# Altium schematic symbol library RoBeast_Schematic_Library.SchLib: 131 symbols (part 3 of 5)
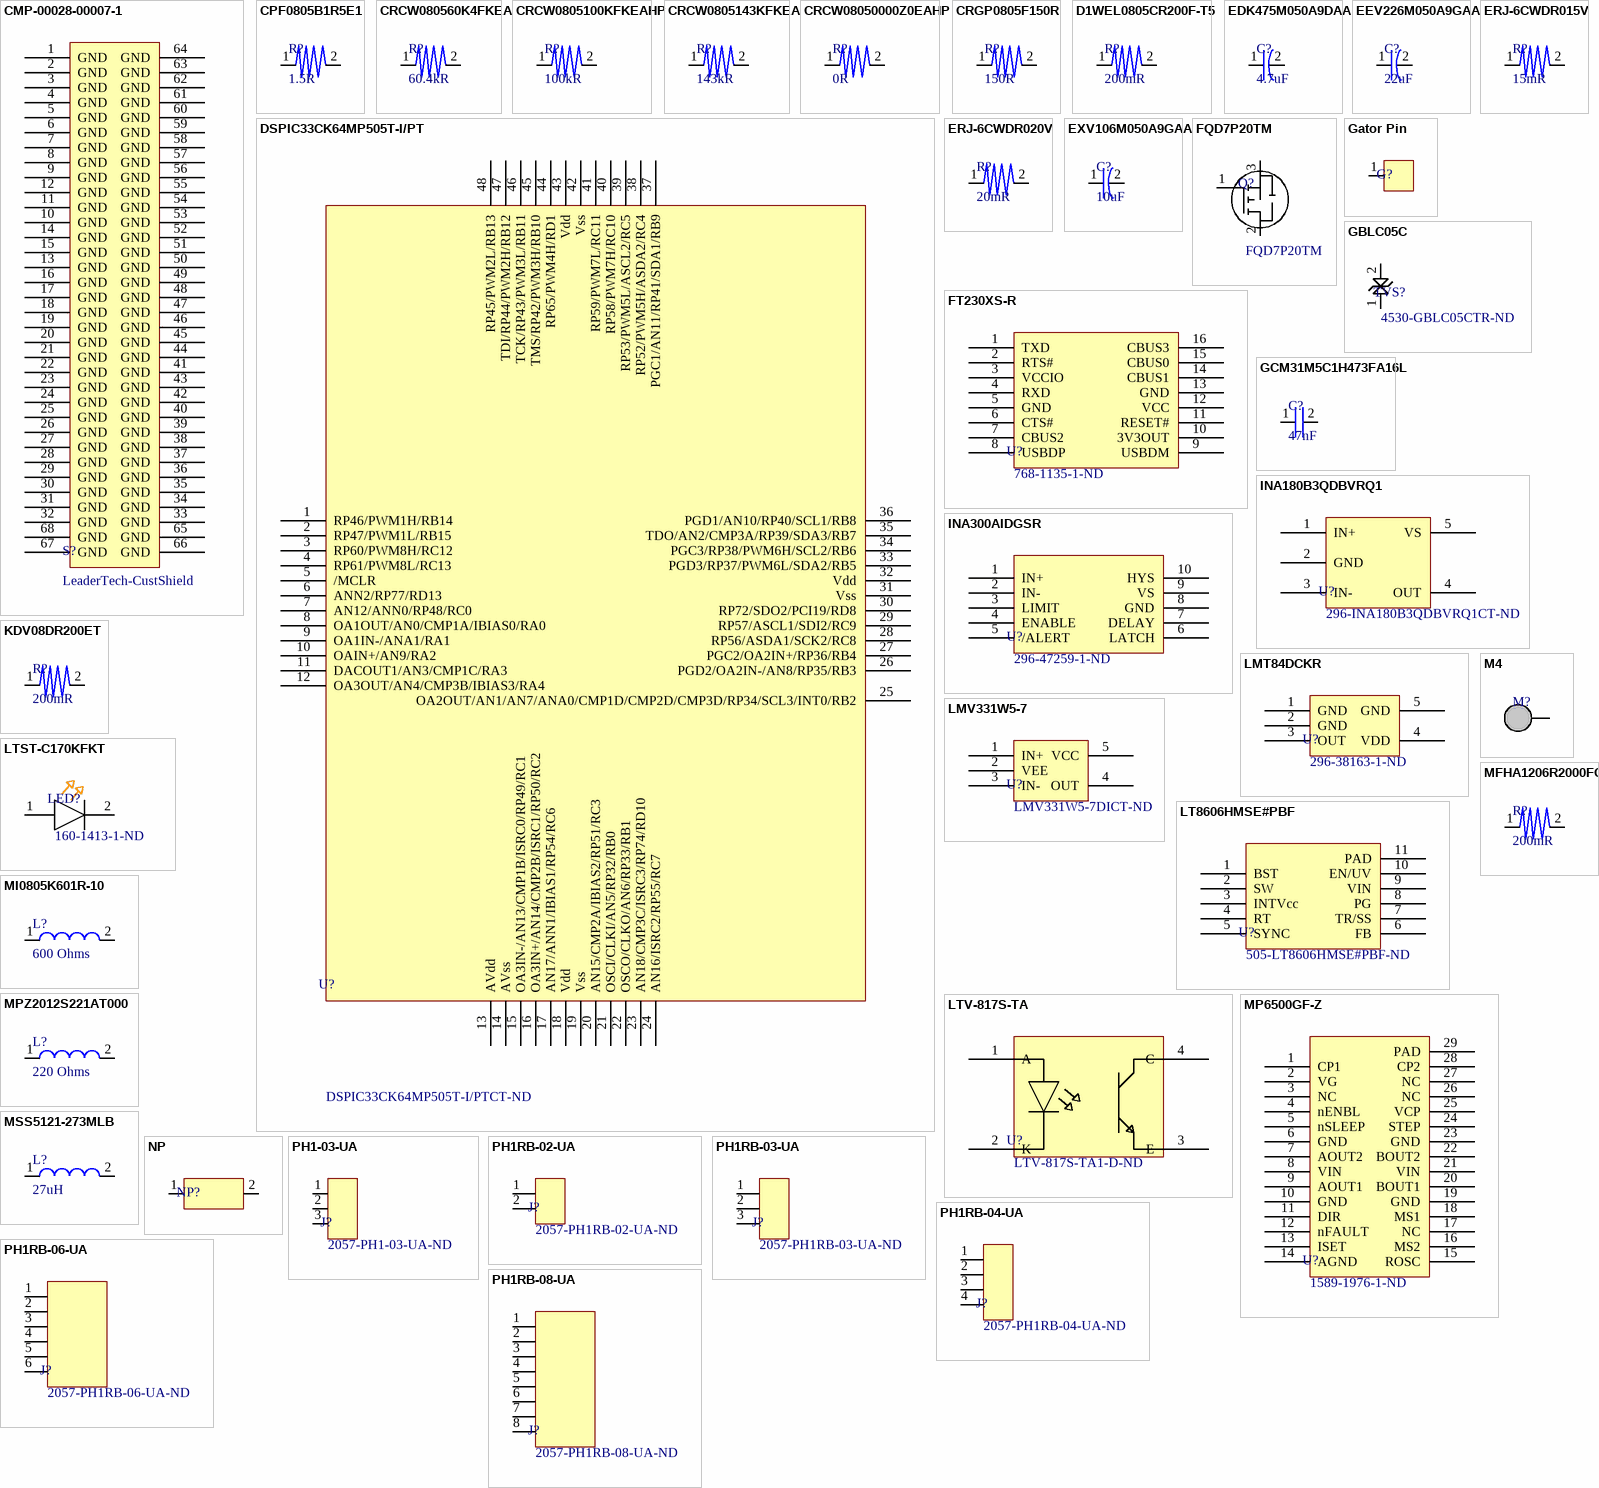
[diagram p5: symbols CMP-00028-00007-1 to PH1RB-08-UA]

## GBLC05C
designator TVS?, comment Supplier Part Number 1: 4530-GBLC05CTR-ND  (hidden comment: TVS ESD Protection Diode)
Trans Voltage Suppressor Diode, 350W, 5V V(RWM), Bidirectional, 2 Element, Silicon; Manufacturer: Protek Devices; Manufacturer Part Number: GBLC05C-LF-T7; Package Body Material: Plastic; Clamping Voltage-Max: 18.3V; Min Breakdown Voltage: 6V; Number of Elements: 2; Qualification Status: Not Qualified; Supplier 1: DigiKey; RoHS: Yes; Stock 1: 1235; Pricing 1: 1=0.4355, 10=0.3594, 25=0.3424, 100=0.2932, 250=0.2652, 500=0.2413, 1000=0.2388 (USD); Number of Pins: 2; Diode Element Material: SILICON; Package Shape: Rectangular; Terminal Finish: Tin; Polarity: Bidirectional; Diode Type: TRANS VOLTAGE SUPPRESSOR; Rep Pk Reverse Voltage-Max: 5V; Surface Mount: Yes; JESD-609 Code: e3; JESD-30 Code: R-PDSO-G2; Non-rep Peak Rev Power Dis-Max: 350W; Package Style: SMALL OUTLINEMeter; Technology: AVALANCHE; Terminal Form: Gull Wing; Terminal Position: DUAL; Reach SVHC Compliant: Yes; RoHS Compliant: Yes; ComponentLink1URL: https://datasheet.ciiva.com:443/pdfs/VipMasterIC/IC/PROT/PROT-S-A0008396247/PROT-S-A0008396247-1.pdf?src-supplier=IHS+Markit; ComponentLink1Description: https://datasheet.ciiva.com:443/pdfs/VipMasterIC/IC/PROT/PROT-S-A0008396247/PROT-S-A0008396247-1.pdf?src-supplier=IHS+Markit; ComponentLink2URL: https://datasheet.ciiva.com/34302/1855588-34302845.pdf?src-supplier=Jameco; ComponentLink2Description: https://datasheet.ciiva.com/34302/1855588-34302845.pdf?src-supplier=Jameco; ComponentLink3URL: https://datasheet.ciiva.com/26839/getdatasheetpartid-214022-26839935.pdf?src-supplier=Verical; ComponentLink3Description: https://datasheet.ciiva.com/26839/getdatasheetpartid-214022-26839935.pdf?src-supplier=Verical; ComponentLink4URL: https://datasheet.ciiva.com/16397/gblc-16397798.pdf?src-supplier=Future+Electronics; ComponentLink4Description: https://datasheet.ciiva.com/16397/gblc-16397798.pdf?src-supplier=Future+Electronics
footprint GBLC05C
pins: 1 A, 2 A

## GCM31M5C1H473FA16L
designator C?, comment 47nF
Ceramic Capacitor, Multilayer, Ceramic, 50V, 1% +Tol, 1% -Tol, C0G, 30ppm/Cel TC, 0.047uF, Surface Mount, 1206; Manufacturer: Murata; Manufacturer Part Number: GCM31M5C1H473FA16L; Multilayer: Yes; Reference Standard: AEC-Q200; Supplier 1: Digikey; RoHS: Yes; Category: Ceramic Capacitors; Stock 1: 62477; Pricing 1: 1=0.87, 10=0.611, 50=0.5148, 100=0.4192, 500=0.34932, 1000=0.29417 (USD); Mount: Surface Mount; Number of Pins: 2; Dielectric Material: Ceramic; Package Shape: Rectangular; Size Code: 1206; Min Operating Temperature: -55°C; Max Operating Temperature: 125°C; Capacitance: 47nF; Capacitor Type: Ceramic; Negative Tolerance: 1%; Packaging: Tape and Reel; Positive Tolerance: 1%; Rated DC Voltage (URdc): 50V; Temperature Characteristics Code: C0G; Termination: Wraparound; Reach SVHC Compliant: Yes; RoHS Compliant: Yes; ComponentLink1URL: https://datasheet.ciiva.com:443/pdfs/VipMasterIC/IC/MURE/MURE-S-A0004442191/MURE-S-A0004444721-1.pdf?src-supplier=IHS+Markit; ComponentLink1Description: https://datasheet.ciiva.com:443/pdfs/VipMasterIC/IC/MURE/MURE-S-A0004442191/MURE-S-A0004444721-1.pdf?src-supplier=IHS+Markit; Supplier Part Number 1: 490-GCM31M5C1H473FA16LCT-ND
footprint 1206
pins: 1, 2

## INA180B3QDBVRQ1
designator U?, comment Supplier Part Number 1: 296-INA180B3QDBVRQ1CT-ND  (hidden comment: Current Sensor, Gain 100V/V)
Operational Amplifier, 1 Func, 500uV Offset-Max, PDSO5; Manufacturer: Texas Instruments; Manufacturer Part Number: INA180B3QDBVRQ1; Supplier 1: Digikey; RoHS: Yes; Category: Amplifiers - Op Amps, Buffer, Instrumentation; Stock 1: 5909; Pricing 1: 1=0.58, 10=0.492, 25=0.4596, 100=0.3676, 250=0.34136, 500=0.28886, 1000=0.22321 (USD)
footprint INA180B3QDBVRQ1
pins: 1 IN+, 2 GND, 3 IN-, 4 OUT, 5 VS

## INA300AIDGSR
designator U?, comment Supplier Part Number 1: 296-47259-1-ND  (hidden comment: Current Sense)
Comparator, 1 Func, 500uV Offset-Max, 100000ns Response Time, PDSO10; Manufacturer: Texas Instruments; Manufacturer Part Number: INA300AIDGSR; Package Body Material: Plastic; Output Type: OPEN-DRAIN; Average Bias Current-Max (IIB): 10uA; Number of Functions: 1; Supply Voltage Limit-Max: 6V; Supply Voltage-Nom (Vsup): 3.3V; RoHS: Yes; Category: Amplifiers - Op Amps, Buffer, Instrumentation; Stock 1: 6017; Pricing 1: 1=1.52, 10=1.32, 50=1.32, 100=1.02, 1000=0.693, 10000=0.59 (USD); Package Code: TSSOP; Number of Pins: 10; Package Shape: Square; Min Operating Temperature: -40°C; Max Operating Temperature: 125°C; Amplifier Type: COMPARATOR; Input Offset Voltage-Max: 500uV; JESD-30 Code: S-PDSO-G10; Moisture Sensitivity Level: 1; Package Style: SMALL OUTLINE, THIN PROFILE, SHRINK PITCHMeter; Response Time-Nom: 100000ns; Surface Mount: Yes; Terminal Form: Gull Wing; Terminal Position: DUAL; Length: 3mm; Width: 3mm; Height - Seated (Max): 1.1mm; Terminal Pitch: 0.5mm; Reach SVHC Compliant: Yes; RoHS Compliant: Yes; Temperature Grade: AUTOMOTIVE; ComponentLink1URL: https://www.ti.com:443/lit/ds/symlink/ina300.pdf?src-supplier=IHS+Markit; ComponentLink1Description: https://www.ti.com:443/lit/ds/symlink/ina300.pdf?src-supplier=IHS+Markit; ComponentLink2URL: http://www.ti.com/general/docs/suppproductinfo.tsp?distId=10&amp;gotoUrl=http%3A%2F%2Fwww.ti.com%2Flit%2Fgpn%2Fina300&src-supplier=Digikey; ComponentLink2Description: http://www.ti.com/general/docs/suppproductinfo.tsp?distId=10&amp;gotoUrl=http%3A%2F%2Fwww.ti.com%2Flit%2Fgpn%2Fina300&src-supplier=Digikey; ComponentLink3URL: http://www.ti.com/lit/ds/symlink/ina300.pdf?src-supplier=Digikey; ComponentLink3Description: http://www.ti.com/lit/ds/symlink/ina300.pdf?src-supplier=Digikey; Supplier 1: Digikey
footprint INA300AIDGSR
pins: 1 IN+, 2 IN-, 3 LIMIT, 4 ENABLE, 5 /ALERT, 6 LATCH, 7 DELAY, 8 GND, 9 VS, 10 HYS

## KDV08DR200ET
designator R?, comment 200mR
Fixed Resistor, Metal Film, 0.25W, 0.2ohm, 0.5% +/-Tol, 50ppm/Cel, Surface Mount, 0805; Manufacturer: Ohmite; Manufacturer Part Number: KDV08DR200ET; Supplier: Digikey; Supplier Part Number: 273-KDV08DR200ETCT-ND; RoHS: No; Category: Chip SMD Resistors; Stock: 16361; Pricing: 1=0.35, 10=0.285, 25=0.218, 50=0.1582, 100=0.1113, 250=0.09, 500=0.0709, 1000=0.04909 (USD); RoHS Compliant: Yes
footprint 0805
pins: 1, 2

## LMT84DCKR
designator U?, comment Supplier Part Number 1: 296-38163-1-ND  (hidden comment: Temperature Sense)
Analog Voltage Output Sensor, 2.70Cel, CMOS, Rectangular, 5 Pin, Surface Mount; Manufacturer: Texas Instruments; Manufacturer Part Number: LMT84DCKR; Package Body Material: Plastic; Accuracy-Max (Cel): 2.7°C; Operating Current-Max: 9uA; Package Equivalence Code: TSSOP5/6,.08; Power Supplies: 1.5/5.5V; Sensors/Transducers Type: TEMPERATURE SENSOR,ANALOG,VOLTAGE OUTPUT; Max Supply Voltage: 5.5V; Min Supply Voltage: 1.5V; Body Breadth: 1.25inch; Body Height: 0.95mm; Body Length or Diameter: 2mm; Supplier 1: Digikey; RoHS: Yes; Category: Integrated Circuits (ICs); Stock 1: 15785; Pricing 1: 1=0.8, 10=0.611, 25=0.526, 50=0.5072, 100=0.4321, 500=0.37572, 1000=0.32876 (USD); Mount: Surface Mount; Number of Pins: 5; Housing Material: Plastic; Package Shape/Style: Rectangular; Terminal Finish: Tin; Min Operating Temperature: -50°C; Max Operating Temperature: 150°C; JESD-609 Code: e3; Technology: CMOS; Termination: Solder; Reach SVHC Compliant: Yes; RoHS Compliant: Yes; ComponentLink1URL: https://www.ti.com:443/lit/ds/symlink/lmt84.pdf?src-supplier=IHS+Markit; ComponentLink1Description: https://www.ti.com:443/lit/ds/symlink/lmt84.pdf?src-supplier=IHS+Markit; ComponentLink2URL: https://datasheet.ciiva.com/15098/getdatasheetpartid-716717-15098827.pdf?src-supplier=Verical; ComponentLink2Description: https://datasheet.ciiva.com/15098/getdatasheetpartid-716717-15098827.pdf?src-supplier=Verical; ComponentLink3URL: https://datasheet.ciiva.com/29895/lmt84-29895383.pdf?src-supplier=Avnet; ComponentLink3Description: https://datasheet.ciiva.com/29895/lmt84-29895383.pdf?src-supplier=Avnet
footprint LMT84DCKR
pins: 1 GND, 2 GND, 3 OUT, 4 VDD, 5 GND

## LMV331W5-7
designator U?, comment Supplier Part Number 1: LMV331W5-7DICT-ND  (hidden comment: Comparator)
Comparator, 1 Func, 9000uV Offset-Max, 300ns Response Time, BICMOS, PDSO5; Manufacturer: Diodes; Manufacturer Part Number: LMV331W5-7; Package Body Material: Plastic; Output Type: OPEN-COLLECTOR; Average Bias Current-Max (IIB): 400nA; Input Offset Voltage-Max: 9mV; Number of Functions: 1; Supply Voltage Limit-Max: 5.5V; Supply Voltage-Nom (Vsup): 5V; Time @ Peak Reflow Temperature-Max (s): 30s; Supplier 1: Digikey; RoHS: Yes; Category: Comparators; Stock 1: 100535; Pricing 1: 1=0.36, 10=0.294, 25=0.2688, 100=0.2001, 250=0.18132, 500=0.15004, 1000=0.11253 (USD); Package Code: LSSOP; Number of Pins: 5; Package Shape: Rectangular; Terminal Finish: Tin; Min Operating Temperature: -40°C; Max Operating Temperature: 125°C; JESD-609 Code: e3; Amplifier Type: COMPARATOR; JESD-30 Code: R-PDSO-G5; Moisture Sensitivity Level: 1; Package Style: SMALL OUTLINE, LOW PROFILE, SHRINK PITCHMeter; Peak Reflow Temperature (Cel): 260°C; Response Time-Nom: 300ns; Surface Mount: Yes; Technology: BICMOS; Terminal Form: Gull Wing; Terminal Position: DUAL; Length: 3mm; Width: 1.6mm; Height - Seated (Max): 1.4mm; Terminal Pitch: 0.95mm; Reach SVHC Compliant: Yes; RoHS Compliant: Yes; Temperature Grade: AUTOMOTIVE; ComponentLink1URL: https://datasheet.ciiva.com:443/pdfs/VipMasterIC/IC/DIOD/DIOD-S-A0001067967/DIOD-S-A0001067967-1.pdf?src-supplier=IHS+Markit; ComponentLink1Description: https://datasheet.ciiva.com:443/pdfs/VipMasterIC/IC/DIOD/DIOD-S-A0001067967/DIOD-S-A0001067967-1.pdf?src-supplier=IHS+Markit; ComponentLink2URL: https://datasheet.ciiva.com/48501/lmv331-393-48501269.pdf?src-supplier=Avnet; ComponentLink2Description: https://datasheet.ciiva.com/48501/lmv331-393-48501269.pdf?src-supplier=Avnet
footprint LMV331W5-7
pins: 1 IN+, 2 VEE, 3 IN-, 4 OUT, 5 VCC

## LT8606HMSE#PBF
designator U?, comment Supplier Part Number 1: 505-LT8606HMSE#PBF-ND  (hidden comment: Switching Regulator)
Manufacturer: Analog Devices; Manufacturer Part Number: LT8606HMSE#PBF; Time @ Peak Reflow Temperature-Max (s): 30s; Supplier 1: Digikey; RoHS: Yes; Category: Voltage Regulators - Switching; Stock 1: 1797; Pricing 1: 1=5.03, 10=4.519, 50=4.2724, 100=3.7027, 250=3.5128, 500=3.152, 1000=2.65832, 2500=2.5254 (USD); Terminal Finish: Tin; JESD-609 Code: e3; Analog IC - Other Type: SWITCHING REGULATOR; Moisture Sensitivity Level: 1; Peak Reflow Temperature (Cel): 260°C; Reach SVHC Compliant: Yes; RoHS Compliant: Yes; ComponentLink1URL: https://datasheet.ciiva.com:443/pdfs/VipMasterIC/IC/LITC/LITC-S-A0003568646/LITC-S-A0003568646-1.pdf?src-supplier=IHS+Markit; ComponentLink1Description: https://datasheet.ciiva.com:443/pdfs/VipMasterIC/IC/LITC/LITC-S-A0003568646/LITC-S-A0003568646-1.pdf?src-supplier=IHS+Markit
footprint LT8606HMSE#PBF
pins: 1 BST, 2 SW, 3 INTVcc, 4 RT, 5 SYNC, 6 FB, 7 TR/SS, 8 PG, 9 VIN, 10 EN/UV, 11 PAD

## LTST-C170KFKT
designator LED?, comment Supplier Part Number 1: 160-1413-1-ND  (hidden comment: Orange LED)
Single Color LED, Orange, Water Clear, 1.4mm; Manufacturer: Vishay Lite-On; Manufacturer Part Number: LTST-C170KFKT; Shape: Rectangular; Forward Current-Max: 30mA; Luminous Intensity-Nom: 60mcd; Number of Functions: 1; Viewing Angle: 130°; Forward Voltage-Max: 2.4V; Reverse Voltage-Max: 5V; Overall Height: 1.1mm; Supplier 1: Digikey; RoHS: Yes; Category: LEDs; Stock 1: 182565; Pricing 1: 1=0.28, 10=0.152, 100=0.0706, 500=0.06514, 1000=0.05103 (USD); Mount: Surface Mount; Number of Pins: 2; Color: Orange; Terminal Finish: Tin; Color@wavelength: Orange; Min Operating Temperature: -55°C; Max Operating Temperature: 85°C; Lens Style: WATER CLEAR; Optoelectronic Device Type: SINGLE COLOR LED; Packaging: Tape and Reel; JESD-609 Code: e3; Size: 1.4mm; Terminal Pitch: 2.1mm; Reach SVHC Compliant: Yes; RoHS Compliant: Yes; ComponentLink1URL: https://datasheet.ciiva.com:443/pdfs/VipMasterIC/IC/LITE/LITE-S-A0009745864/LITE-S-A0009746003-1.pdf?src-supplier=IHS+Markit; ComponentLink1Description: https://datasheet.ciiva.com:443/pdfs/VipMasterIC/IC/LITE/LITE-S-A0009745864/LITE-S-A0009746003-1.pdf?src-supplier=IHS+Markit; ComponentLink2URL: https://datasheet.ciiva.com/11773/0900766b80dc0279-11773662.pdf?src-supplier=Rs; ComponentLink2Description: https://datasheet.ciiva.com/11773/0900766b80dc0279-11773662.pdf?src-supplier=Rs; ComponentLink3URL: https://datasheet.ciiva.com/12403/lite-on-ltst-c170kfkt-187690-12403821.pdf?src-supplier=Mouser; ComponentLink3Description: https://datasheet.ciiva.com/12403/lite-on-ltst-c170kfkt-187690-12403821.pdf?src-supplier=Mouser; ComponentLink4URL: https://datasheet.ciiva.com/15117/getdatasheetpartid-158266-15117926.pdf?src-supplier=Verical; ComponentLink4Description: https://datasheet.ciiva.com/15117/getdatasheetpartid-158266-15117926.pdf?src-supplier=Verical; ComponentLink5URL: https://datasheet.ciiva.com/2110/s-110-ltst-c170kfkt-2110076.pdf?src-supplier=Digikey; ComponentLink5Description: https://datasheet.ciiva.com/2110/s-110-ltst-c170kfkt-2110076.pdf?src-supplier=Digikey; ComponentLink6URL: https://datasheet.ciiva.com/2110/s-110-ltst-c170kfkt-2110075.pdf?src-supplier=Digikey; ComponentLink6Description: https://datasheet.ciiva.com/2110/s-110-ltst-c170kfkt-2110075.pdf?src-supplier=Digikey; ComponentLink7URL: https://datasheet.ciiva.com/2110/s-110-ltst-c170kfkt-2110077.pdf?src-supplier=Digikey; ComponentLink7Description: https://datasheet.ciiva.com/2110/s-110-ltst-c170kfkt-2110077.pdf?src-supplier=Digikey; ComponentLink8URL: https://datasheet.ciiva.com/16427/ltst-c170kfkt-16427484.pdf?src-supplier=Future+Electronics; ComponentLink8Description: https://datasheet.ciiva.com/16427/ltst-c170kfkt-16427484.pdf?src-supplier=Future+Electronics
footprint 0805_LED
pins: 1 A, 2 K

## LTV-817S-TA
designator U?, comment Supplier Part Number 1: LTV-817S-TA1-D-ND  (hidden comment: Optoisolator)
Transistor Output Optocoupler, 1-Element, 5000V Isolation; Manufacturer: Vishay Lite-On; Manufacturer Part Number: LTV-817S-TA1-D; Supplier 1: Digikey; RoHS: Yes; Category: Optocouplers; Stock 1: 11000; Pricing 1: 1000=0.1201, 2000=0.11009, 5000=0.10008, 10000=0.09341, 25000=0.09007, 50000=0.08688 (USD); ComponentLink1URL: https://datasheet.ciiva.com/12240/ltv-817-827-847-12240455.pdf?src-supplier=Mouser; ComponentLink1Description: https://datasheet.ciiva.com/12240/ltv-817-827-847-12240455.pdf?src-supplier=Mouser; ComponentLink2URL: https://datasheet.ciiva.com/2958/s-110-ltv-817m-s-s-ta-s-ta1-s-tpseries20130925-2958798.pdf?src-supplier=Digikey; ComponentLink2Description: https://datasheet.ciiva.com/2958/s-110-ltv-817m-s-s-ta-s-ta1-s-tpseries20130925-2958798.pdf?src-supplier=Digikey
footprint LTV-817S-TA
pins: 1 A, 2 K, 3 E, 4 C

## M4
designator M?, comment M4 Mounting Screw Hole  (value not drawn)
footprint M4
pins: 1 M4

## MFHA1206R2000FC
designator R?, comment 200mR
Res, R2, 1%, 1W, Metal Film, 1206 Rohs Compliant: Yes; Manufacturer: Eaton; Manufacturer Part Number: MFHA1206R2000FC; Supplier 1: Digikey; RoHS: No; Stock 1: 10043; Pricing 1: 1=0.41, 10=0.278, 25=0.2164, 50=0.1594, 100=0.1109, 250=0.09668, 500=0.07972, 1000=0.05766 (USD); Supplier Part Number 1: 283-MFHA1206R2000FCCT-ND
footprint 1206
pins: 1, 2

## MI0805K601R-10
designator L?, comment 600 Ohms
Ferrite Chip, 1 Function(s), 1.5A, 2 Pin(s); Manufacturer Part Number: MI0805K601R-10; Manufacturer Series: MI0805K601R; Manufacturer: Laird; DC Resistance-Max: 100mR; Number of Functions: 1; Output Impedance: 600R; Max Frequency: 100MHz; Supplier 1: Digikey; RoHS: Yes; Category: Ferrite Beads and Chips; Stock 1: 475960; Pricing 1: 1=0.19, 10=0.147, 25=0.122, 50=0.1052, 100=0.0948, 250=0.08004, 500=0.0716, 1000=0.06107 (USD); Mount: Surface Mount; Terminal Finish: Nickel; Material: Ferrite; Case Code: 0805; Min Operating Temperature: -55°C; Max Operating Temperature: 125°C; JESD-609 Code: e3; Filter Type: FERRITE CHIP; Current Rating: 1.5A; Packaging: Tape and Reel; Construction: Chip Bead; Min Frequency: 100MHz; Series: MI0805K601R-10; Length: 2mm; Width: 1.25mm; Height: 0.9mm; RoHS Compliant: Yes; Reach SVHC Compliant: Yes; ComponentLink1URL: https://datasheet.ciiva.com:443/pdfs/VipMasterIC/IC/STWD/STWDS00462/STWDS00462-1.pdf?src-supplier=IHS+Markit; ComponentLink1Description: https://datasheet.ciiva.com:443/pdfs/VipMasterIC/IC/STWD/STWDS00462/STWDS00462-1.pdf?src-supplier=IHS+Markit; ComponentLink2URL: https://datasheet.ciiva.com/22650/1685918-22650417.pdf?src-supplier=Element14; ComponentLink2Description: https://datasheet.ciiva.com/22650/1685918-22650417.pdf?src-supplier=Element14; ComponentLink3URL: https://datasheet.ciiva.com/1013/mi0805k601r-10-b-1013299.pdf?src-supplier=Digikey; ComponentLink3Description: https://datasheet.ciiva.com/1013/mi0805k601r-10-b-1013299.pdf?src-supplier=Digikey; ComponentLink4URL: https://datasheet.ciiva.com/3082/mi0805k601r-10-a-vp-3082219.pdf?src-supplier=Avnet; ComponentLink4Description: https://datasheet.ciiva.com/3082/mi0805k601r-10-a-vp-3082219.pdf?src-supplier=Avnet; Supplier Part Number 1: 240-2390-1-ND
footprint 0805
pins: 1, 2

## MP6500GF-Z
designator U?, comment Supplier Part Number 1: 1589-1976-1-ND  (hidden comment: Stepper Motor Driver)
Stepper Motor Controller, PDSO28; Manufacturer: Monolithic Power Systems; Manufacturer Part Number: MP6500GF-Z; Package Body Material: Plastic; Number of Functions: 1; Supply Voltage-Max (Vsup): 35V; Supply Voltage-Min (Vsup): 4.5V; Supply Voltage-Nom (Vsup): 24V; Supplier 1: Digikey; RoHS: Yes; Stock 1: 2900; Pricing 1: 1=2.97, 10=2.668, 25=2.5224, 100=2.1861, 250=2.07404, 500=1.86102, 1000=1.56954 (USD); Package Code: HTSSOP; Number of Pins: 28; Package Shape: Rectangular; Min Operating Temperature: -40°C; Max Operating Temperature: 125°C; Analog IC - Other Type: STEPPER MOTOR CONTROLLER; JESD-30 Code: R-PDSO-G28; Package Style: SMALL OUTLINE, HEAT SINK/SLUG, THIN PROFILE, SHRINK PITCHMeter; Surface Mount: Yes; Terminal Form: Gull Wing; Terminal Position: DUAL; Length: 9.7mm; Width: 4.4mm; Height - Seated (Max): 1.2mm; Terminal Pitch: 0.65mm; Temperature Grade: AUTOMOTIVE; Reach SVHC Compliant: Yes; RoHS Compliant: Yes; ComponentLink1URL: https://datasheet.ciiva.com:443/pdfs/VipMasterIC/IC/MONO/MONO-S-A0009032018/MONO-S-A0009032018-1.pdf?src-supplier=IHS+Markit; ComponentLink1Description: https://datasheet.ciiva.com:443/pdfs/VipMasterIC/IC/MONO/MONO-S-A0009032018/MONO-S-A0009032018-1.pdf?src-supplier=IHS+Markit; ComponentLink2URL: https://www.monolithicpower.com/pub/media/document/m/p/mp6500_r1.01.pdf?src-supplier=Digikey; ComponentLink2Description: https://www.monolithicpower.com/pub/media/document/m/p/mp6500_r1.01.pdf?src-supplier=Digikey
footprint MP6500GF-Z
pins: 1 CP1, 2 VG, 3 NC, 4 nENBL, 5 nSLEEP, 6 GND, 7 AOUT2, 8 VIN, 9 AOUT1, 10 GND, 11 DIR, 12 nFAULT, 13 ISET, 14 AGND, 15 ROSC, 16 MS2, 17 NC, 18 MS1, 19 GND, 20 BOUT1, 21 VIN, 22 BOUT2, 23 GND, 24 STEP, 25 VCP, 26 NC, 27 NC, 28 CP2, 29 PAD

## MPZ2012S221AT000
designator L?, comment 220 Ohms
Ferrite Chip, 1 Function(s), 3A; Manufacturer: TDK; Manufacturer Part Number: MPZ2012S221AT000; DC Resistance-Max: 40mR; Max Frequency: 100MHz; Number of Functions: 1; Output Impedance: 220R; Supplier 1: Digikey; RoHS: Yes; Category: Ferrite Beads and Chips; Stock 1: 260953; Pricing 1: 1=0.12, 10=0.094, 25=0.0848, 50=0.0622, 100=0.0537, 250=0.0424, 500=0.03582, 1000=0.03016 (USD); Mount: Surface Mount; Material: Ferrite; Case Code: 0805; Terminal Finish: Copper; Min Operating Temperature: -55°C; Max Operating Temperature: 125°C; Construction: Chip Bead; Filter Type: FERRITE CHIP; Min Frequency: 100MHz; Packaging: Tape and Reel; Current Rating: 3A; JESD-609 Code: e2; Length: 2mm; Width: 1.25mm; Height: 0.85mm; Reach SVHC Compliant: Yes; RoHS Compliant: Yes; ComponentLink1URL: https://datasheet.ciiva.com:443/pdfs/VipMasterIC/IC/TDKC/TDKC-S-A0008032886/TDKC-S-A0008032886-1.pdf?src-supplier=IHS+Markit; ComponentLink1Description: https://datasheet.ciiva.com:443/pdfs/VipMasterIC/IC/TDKC/TDKC-S-A0008032886/TDKC-S-A0008032886-1.pdf?src-supplier=IHS+Markit; ComponentLink2URL: https://datasheet.ciiva.com/46381/1750041-46381647.pdf?src-supplier=Element14; ComponentLink2Description: https://datasheet.ciiva.com/46381/1750041-46381647.pdf?src-supplier=Element14; ComponentLink3URL: https://datasheet.ciiva.com/46634/beads-commercial-power-mpz-en-46634582.pdf?src-supplier=Digikey; ComponentLink3Description: https://datasheet.ciiva.com/46634/beads-commercial-power-mpz-en-46634582.pdf?src-supplier=Digikey; ComponentLink4URL: https://datasheet.ciiva.com/46634/beads-commercial-power-mpz-en-46634586.pdf?src-supplier=Digikey; ComponentLink4Description: https://datasheet.ciiva.com/46634/beads-commercial-power-mpz-en-46634586.pdf?src-supplier=Digikey; Supplier Part Number 1: 445-MPZ2012S221AT000CT-ND
footprint 0805
pins: 1, 2

## MSS5121-273MLB
designator L?, comment 27uH
General Purpose Inductor, 27uH, 20%, 1 Element, Ferrite-Core, SMD, 2020; Manufacturer: Coilcraft; Manufacturer Part Number: MSS5121-273MLB; Case/Size Code: 2020; DC Resistance (DCR): 420mR; Inductor Application: POWER INDUCTOR; Number of Functions: 1; Rated Current-Max: 850mA; Self Resonant Frequency: 27MHz; Shape/Size Description: RECTANGULAR PACKAGE; Shielding: Shielded; Test Frequency: 100kHz; Package Height: 2.2mm; Package Length: 6mm; Supplier 1: Mouser; RoHS: Yes; Category: Fixed Inductors; Stock 1: 439; Pricing 1: 1=1.8, 10=1.8, 50=1.8, 100=1.8, 1000=0.878, 10000=0.817 (USD); Number of Pins: 2; Core Material: Ferrite; Terminal Finish: Nickel; Min Operating Temperature: -40°C; Max Operating Temperature: 125°C; Tolerance: 20%; JESD-609 Code: e3; Construction: Shielded; Inductance-Nom (L): 27uH; Inductor Type: GENERAL PURPOSE INDUCTOR; Package Style: SMTMeter; Packaging: Tape and Reel; Surface Mount: Yes; Terminal Placement: Dual Ended; Termination: Wraparound; Package Width: 6mm; Reach SVHC Compliant: Yes; RoHS Compliant: Yes; ComponentLink1URL: https://datasheet.ciiva.com:443/pdfs/VipMasterIC/IC/COLC/COLC-S-A0003131943/COLC-S-A0003131943-1.pdf?src-supplier=IHS+Markit; ComponentLink1Description: https://datasheet.ciiva.com:443/pdfs/VipMasterIC/IC/COLC/COLC-S-A0003131943/COLC-S-A0003131943-1.pdf?src-supplier=IHS+Markit; ComponentLink2URL: https://datasheet.ciiva.com/22680/1681961-22680287.pdf?src-supplier=Element14; ComponentLink2Description: https://datasheet.ciiva.com/22680/1681961-22680287.pdf?src-supplier=Element14; Supplier Part Number 1: 994-MSS5121-273MLB
footprint MSS5121-273MLB
pins: 1, 2

## NP
designator NP?, comment Not Populated  (value not drawn)
footprint 0805
pins: 1, 2

## PH1-03-UA
designator J?, comment Supplier Part Number 1: 2057-PH1-03-UA-ND  (hidden comment: 3 Pin Connector)
Conn Unshrouded Header HDR 3 POS 2.54mm Solder ST Thru-Hole Bag; Manufacturer: Adam Equipment; Manufacturer Part Number: PH1-03-UA; Supplier 1: Digikey; RoHS: Yes; Category: Connectors; Stock 1: 50788; Pricing 1: 1=0.1, 10=0.045, 100=0.0285, 500=0.02374, 1000=0.02136, 5000=0.01804, 10000=0.01709 (USD); ComponentLink1URL: https://datasheet.ciiva.com/16396/catpg240-254-16396026.pdf?src-supplier=Future+Electronics; ComponentLink1Description: https://datasheet.ciiva.com/16396/catpg240-254-16396026.pdf?src-supplier=Future+Electronics
footprint PH1-03-UA
pins: 1, 2, 3

## PH1RB-02-UA
designator J?, comment Supplier Part Number: 2057-PH1RB-02-UA-ND  (hidden comment: 2 Pin Connector)
Conn Unshrouded Header HDR 2 POS 2.54mm Solder RA Thru-Hole; Manufacturer: Adam Equipment; Manufacturer Part Number: PH1RB-02-UA; Supplier: Digikey; RoHS: No; Category: Connectors; Stock: 14725; Pricing: 1=0.1, 10=0.049, 100=0.0363, 500=0.03006, 1000=0.0263, 5000=0.02254, 10000=0.02192 (USD)
footprint PH1RB-02-UA
pins: 1, 2

## PH1RB-03-UA
designator J?, comment Supplier Part Number: 2057-PH1RB-03-UA-ND  (hidden comment: 3 Pin Connector)
Conn Unshrouded Header HDR 3 POS 2.54mm Solder RA Side Entry Thru-Hole; Manufacturer: Adam Equipment; Manufacturer Part Number: PH1RB-03-UA; Supplier: Digikey; RoHS: No; Category: Connectors; Stock: 27919; Pricing: 1=0.12, 10=0.097, 100=0.0718, 500=0.05938, 1000=0.05196, 5000=0.04454, 10000=0.0433 (USD); ComponentLink1URL: http://www.adam-tech.com/downloader.php?p=PH1RB-XX-UA.pdf&src-supplier=Digikey; ComponentLink1Description: http://www.adam-tech.com/downloader.php?p=PH1RB-XX-UA.pdf&src-supplier=Digikey
footprint PH1RB-03-UA
pins: 1, 2, 3

## PH1RB-04-UA
designator J?, comment Supplier Part Number: 2057-PH1RB-04-UA-ND  (hidden comment: 4 Pin Connector)
Conn Unshrouded Header HDR 4 POS 2.54mm Solder RA Thru-Hole; Manufacturer: Adam Equipment; Manufacturer Part Number: PH1RB-04-UA; Supplier: Digikey; RoHS: No; Category: Connectors; Stock: 13315; Pricing: 1=0.12, 10=0.094, 100=0.0697, 500=0.0577, 1000=0.05048, 5000=0.04327, 10000=0.04207 (USD); ComponentLink1URL: http://www.adam-tech.com/downloader.php?p=PH1RB-XX-UA.pdf&src-supplier=Digikey; ComponentLink1Description: http://www.adam-tech.com/downloader.php?p=PH1RB-XX-UA.pdf&src-supplier=Digikey
footprint PH1RB-04-UA
pins: 1, 2, 3, 4

## PH1RB-06-UA
designator J?, comment Supplier Part Number 1: 2057-PH1RB-06-UA-ND  (hidden comment: 6 Pin Connector)
Conn Unshrouded Header HDR 6 POS 2.54mm Solder RA Thru-Hole; Manufacturer: Adam Equipment; Manufacturer Part Number: PH1RB-06-UA; Supplier 1: Digikey; RoHS: No; Category: Connectors; Stock 1: 9095; Pricing 1: 1=0.18, 10=0.141, 100=0.104, 500=0.08606, 1000=0.0753, 5000=0.06454, 10000=0.06275 (USD)
footprint PH1RB-06-UA
pins: 1, 2, 3, 4, 5, 6

## PH1RB-08-UA
designator J?, comment Supplier Part Number 1: 2057-PH1RB-08-UA-ND  (hidden comment: 8 Pin Connector)
Conn Unshrouded Header HDR 8 POS 2.54mm Solder RA Thru-Hole; Manufacturer: Adam Equipment; Manufacturer Part Number: PH1RB-08-UA; Supplier 1: Digikey; RoHS: No; Category: Connectors; Stock 1: 10117; Pricing 1: 1=0.23, 10=0.196, 100=0.1505, 500=0.12738, 1000=0.10423, 5000=0.09265, 10000=0.08396 (USD)
footprint PH1RB-08-UA
pins: 1, 2, 3, 4, 5, 6, 7, 8

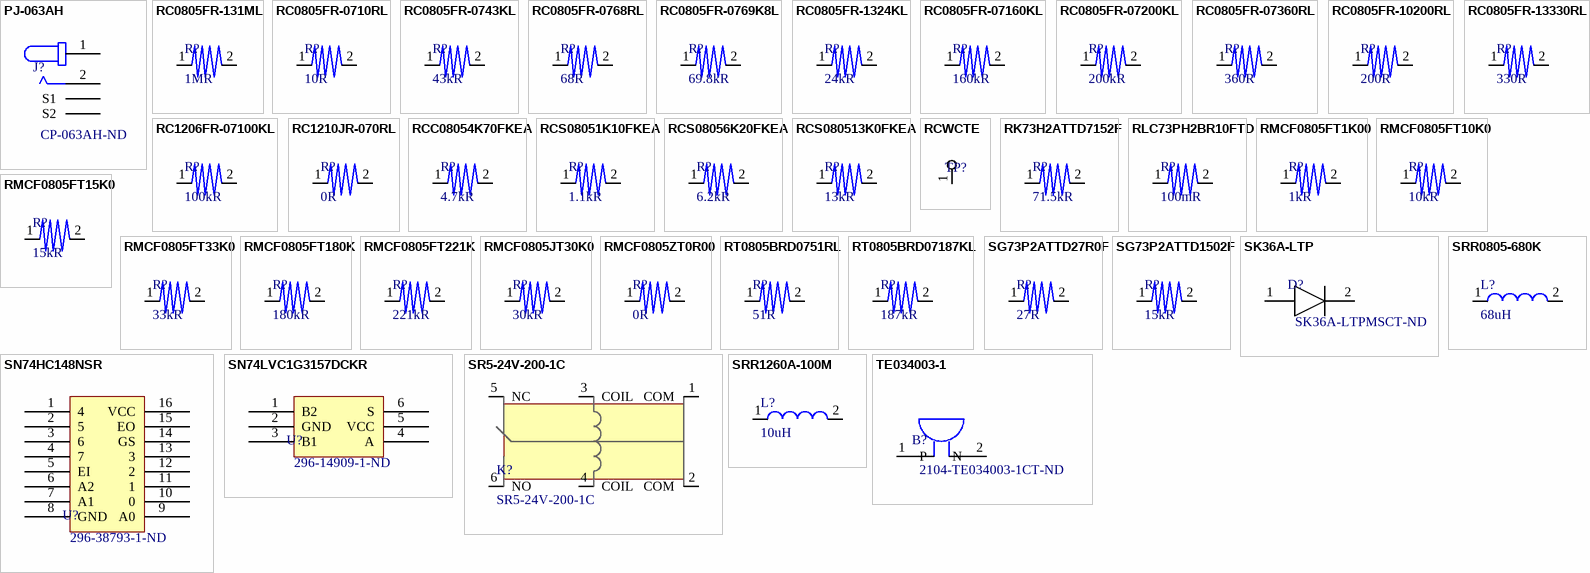
[diagram p2: symbols PJ-063AH to TE034003-1]

## PJ-063AH
designator J?, comment Supplier Part Number 1: CP-063AH-ND  (hidden comment: Power In)
Circular DC Power Connector, 24V, 8A, 2mm Dia; Manufacturer: CUI Devices; Manufacturer Part Number: PJ-063AH; Supplier 1: Digikey; RoHS: Yes; Category: Power Connectors; Stock 1: 8581; Pricing 1: 1=1.37, 10=1.19, 25=1.1396, 50=1.1144, 100=1.0637, 250=0.96244, 500=0.88644, 1000=0.75981, 2500=0.70916 (USD)
footprint PJ-063AH
pins: 1, 2, S1 (power), S2 (power)

## RC0805FR-131ML
designator R?, comment 1MR
Fixed Resistor, Metal Glaze/thick Film, 0.125W, 1000000ohm, 150V, 1% +/-Tol, 100ppm/Cel, Surface Mount, 0805; Manufacturer: Yageo; Manufacturer Part Number: RC0805FR-131ML; Additional Feature: LASER TRIMMABLE; Rated Power Dissipation (P): 125mW; Rated Temperature: 70°C; Temperature Coefficient: 100ppm/°C; Package Height: 0.5mm; Package Length: 2mm; Package Width: 1.25mm; Supplier 1: Digikey; RoHS: Yes; Category: Chip SMD Resistors; Stock 1: 43680; Pricing 1: 1=0.1, 10=0.025, 50=0.016, 100=0.0133, 500=0.00912, 1000=0.00787, 5000=0.00577, 10000=0.00511 (USD); Mount: Surface Mount; Number of Pins: 2; Package Shape: Rectangular; Size Code: 0805; Terminal Finish: Nickel; Min Operating Temperature: -55°C; Max Operating Temperature: 155°C; Tolerance: 1%; JESD-609 Code: e3; Resistor Type: FIXED RESISTOR; Construction: Chip; Package Style: SMTMeter; Packaging: Tape and Reel; Resistance: 1MR; Technology: METAL GLAZE/THICK FILM; Termination: Wraparound; Working Voltage: 150V; Reach SVHC Compliant: Yes; RoHS Compliant: Yes; ComponentLink1URL: https://datasheet.ciiva.com:443/pdfs/VipMasterIC/IC/YAGO/YAGO-S-A0008145938/YAGO-S-A0008145938-1.pdf?src-supplier=IHS+Markit; ComponentLink1Description: https://datasheet.ciiva.com:443/pdfs/VipMasterIC/IC/YAGO/YAGO-S-A0008145938/YAGO-S-A0008145938-1.pdf?src-supplier=IHS+Markit; ComponentLink2URL: https://datasheet.ciiva.com/17332/rc0805-17332618.pdf?src-supplier=Future+Electronics; ComponentLink2Description: https://datasheet.ciiva.com/17332/rc0805-17332618.pdf?src-supplier=Future+Electronics; ComponentLink3URL: https://datasheet.ciiva.com/12560/rc0805-257173-12560472.pdf?src-supplier=Mouser; ComponentLink3Description: https://datasheet.ciiva.com/12560/rc0805-257173-12560472.pdf?src-supplier=Mouser; Supplier Part Number 1: 13-RC0805FR-131MLCT-ND
footprint 0805
pins: 1, 2

## RC0805FR-0710RL
designator R?, comment 10R
Fixed Resistor, Metal Glaze/thick Film, 0.125W, 10ohm, 150V, 1% +/-Tol, 200ppm/Cel, Surface Mount, 0805; Manufacturer: Yageo; Manufacturer Part Number: RC0805FR-0710RL; Additional Feature: LASER TRIMMABLE; Rated Power Dissipation (P): 125mW; Rated Temperature: 70°C; Temperature Coefficient: 200ppm/°C; Package Height: 0.5mm; Package Length: 2mm; Package Width: 1.25mm; Supplier 1: Digikey; RoHS: Yes; Category: Chip SMD Resistors; Stock 1: 1401654; Pricing 1: 1=0.1, 10=0.043, 50=0.0282, 100=0.0238, 500=0.01678, 1000=0.01462 (USD); Mount: Surface Mount; Number of Pins: 2; Package Shape: Rectangular; Size Code: 0805; Terminal Finish: Nickel; Min Operating Temperature: -55°C; Max Operating Temperature: 155°C; Tolerance: 1%; JESD-609 Code: e3; Resistor Type: FIXED RESISTOR; Construction: Chip; Package Style: SMTMeter; Packaging: Tape and Reel; Resistance: 10R; Technology: METAL GLAZE/THICK FILM; Termination: Wraparound; Working Voltage: 150V; Reach SVHC Compliant: Yes; RoHS Compliant: Yes; ComponentLink1URL: https://datasheet.ciiva.com:443/pdfs/VipMasterIC/IC/YAGO/YAGO-S-A0008145938/YAGO-S-A0008145938-1.pdf?src-supplier=IHS+Markit; ComponentLink1Description: https://datasheet.ciiva.com:443/pdfs/VipMasterIC/IC/YAGO/YAGO-S-A0008145938/YAGO-S-A0008145938-1.pdf?src-supplier=IHS+Markit; ComponentLink2URL: https://datasheet.ciiva.com/11809/0900766b8106beab-11809370.pdf?src-supplier=Rs; ComponentLink2Description: https://datasheet.ciiva.com/11809/0900766b8106beab-11809370.pdf?src-supplier=Rs; ComponentLink3URL: https://datasheet.ciiva.com/46412/444164-46412859.pdf?src-supplier=Element14; ComponentLink3Description: https://datasheet.ciiva.com/46412/444164-46412859.pdf?src-supplier=Element14; ComponentLink4URL: https://datasheet.ciiva.com/46447/444164-46447565.pdf?src-supplier=Element14; ComponentLink4Description: https://datasheet.ciiva.com/46447/444164-46447565.pdf?src-supplier=Element14; ComponentLink5URL: https://datasheet.ciiva.com/2457/pyu-r-int-thick-7-2457099.pdf?src-supplier=Digikey; ComponentLink5Description: https://datasheet.ciiva.com/2457/pyu-r-int-thick-7-2457099.pdf?src-supplier=Digikey; ComponentLink6URL: https://datasheet.ciiva.com/2457/pyu-r-int-thick-7-2457100.pdf?src-supplier=Digikey; ComponentLink6Description: https://datasheet.ciiva.com/2457/pyu-r-int-thick-7-2457100.pdf?src-supplier=Digikey; ComponentLink7URL: https://datasheet.ciiva.com/2457/pyu-r-int-thick-7-2457098.pdf?src-supplier=Digikey; ComponentLink7Description: https://datasheet.ciiva.com/2457/pyu-r-int-thick-7-2457098.pdf?src-supplier=Digikey; ComponentLink8URL: https://datasheet.ciiva.com/12555/rc0805-257173-12555112.pdf?src-supplier=Mouser; ComponentLink8Description: https://datasheet.ciiva.com/12555/rc0805-257173-12555112.pdf?src-supplier=Mouser; ComponentLink9URL: https://datasheet.ciiva.com/7941/444164-7941688.pdf?src-supplier=Element14; ComponentLink9Description: https://datasheet.ciiva.com/7941/444164-7941688.pdf?src-supplier=Element14; ComponentLink10URL: https://datasheet.ciiva.com/7941/444164-7941687.pdf?src-supplier=Element14; ComponentLink10Description: https://datasheet.ciiva.com/7941/444164-7941687.pdf?src-supplier=Element14; Supplier Part Number 1: 311-10.0CRCT-ND
footprint 0805
pins: 1, 2

## RC0805FR-0743KL
designator R?, comment 43kR
Fixed Resistor, Metal Glaze/thick Film, 0.125W, 43000ohm, 150V, 1% +/-Tol, 100ppm/Cel, Surface Mount, 0805; Manufacturer: Yageo; Manufacturer Part Number: RC0805FR-0743KL; Additional Feature: LASER TRIMMABLE; Rated Power Dissipation (P): 125mW; Rated Temperature: 70°C; Temperature Coefficient: 100ppm/°C; Package Height: 0.5mm; Package Length: 2mm; Package Width: 1.25mm; Supplier 1: Digikey; RoHS: Yes; Category: Chip SMD Resistors; Stock 1: 499081; Pricing 1: 1=0.1, 10=0.025, 50=0.016, 100=0.0133, 500=0.00912, 1000=0.00787 (USD); Mount: Surface Mount; Number of Pins: 2; Package Shape: Rectangular; Size Code: 0805; Terminal Finish: Nickel; Min Operating Temperature: -55°C; Max Operating Temperature: 155°C; Tolerance: 1%; Package Style: SMTMeter; Technology: METAL GLAZE/THICK FILM; JESD-609 Code: e3; Resistor Type: FIXED RESISTOR; Construction: Chip; Packaging: Tape and Reel; Resistance: 43kR; Termination: Wraparound; Working Voltage: 150V; Reach SVHC Compliant: Yes; RoHS Compliant: Yes; ComponentLink1URL: https://datasheet.ciiva.com:443/pdfs/VipMasterIC/IC/YAGO/YAGO-S-A0008145938/YAGO-S-A0008145938-1.pdf?src-supplier=IHS+Markit; ComponentLink1Description: https://datasheet.ciiva.com:443/pdfs/VipMasterIC/IC/YAGO/YAGO-S-A0008145938/YAGO-S-A0008145938-1.pdf?src-supplier=IHS+Markit; ComponentLink2URL: https://datasheet.ciiva.com/11819/0900766b8106beab-11819846.pdf?src-supplier=Rs; ComponentLink2Description: https://datasheet.ciiva.com/11819/0900766b8106beab-11819846.pdf?src-supplier=Rs; ComponentLink3URL: https://datasheet.ciiva.com/2491/pyu-r-int-thick-7-2491685.pdf?src-supplier=Digikey; ComponentLink3Description: https://datasheet.ciiva.com/2491/pyu-r-int-thick-7-2491685.pdf?src-supplier=Digikey; ComponentLink4URL: https://datasheet.ciiva.com/2491/pyu-r-int-thick-7-2491686.pdf?src-supplier=Digikey; ComponentLink4Description: https://datasheet.ciiva.com/2491/pyu-r-int-thick-7-2491686.pdf?src-supplier=Digikey; ComponentLink5URL: https://datasheet.ciiva.com/2491/pyu-r-int-thick-7-2491684.pdf?src-supplier=Digikey; ComponentLink5Description: https://datasheet.ciiva.com/2491/pyu-r-int-thick-7-2491684.pdf?src-supplier=Digikey; ComponentLink6URL: https://datasheet.ciiva.com/5558/rc0805-5558262.pdf?src-supplier=Mouser; ComponentLink6Description: https://datasheet.ciiva.com/5558/rc0805-5558262.pdf?src-supplier=Mouser; Supplier Part Number 1: 311-43.0KCRCT-ND
footprint 0805
pins: 1, 2

## RC0805FR-0768RL
designator R?, comment 68R
Fixed Resistor, Metal Glaze/thick Film, 0.125W, 68ohm, 150V, 1% +/-Tol, 100ppm/Cel, Surface Mount, 0805; Manufacturer: Yageo; Manufacturer Part Number: RC0805FR-0768RL; Additional Feature: LASER TRIMMABLE; Rated Power Dissipation (P): 125mW; Rated Temperature: 70°C; Temperature Coefficient: 100ppm/°C; Package Height: 0.5mm; Package Length: 2mm; Package Width: 1.25mm; Supplier 1: Digikey; RoHS: Yes; Category: Chip SMD Resistors; Stock 1: 141090; Pricing 1: 1=0.1, 10=0.025, 50=0.016, 100=0.0133, 500=0.00912, 1000=0.00787 (USD); Mount: Surface Mount; Number of Pins: 2; Package Shape: Rectangular; Size Code: 0805; Terminal Finish: Nickel; Min Operating Temperature: -55°C; Max Operating Temperature: 155°C; Tolerance: 1%; JESD-609 Code: e3; Resistor Type: FIXED RESISTOR; Construction: Chip; Package Style: SMTMeter; Packaging: Tape and Reel; Resistance: 68R; Technology: METAL GLAZE/THICK FILM; Termination: Wraparound; Working Voltage: 150V; Reach SVHC Compliant: Yes; RoHS Compliant: Yes; ComponentLink1URL: https://datasheet.ciiva.com:443/pdfs/VipMasterIC/IC/YAGO/YAGO-S-A0008145938/YAGO-S-A0008145938-1.pdf?src-supplier=IHS+Markit; ComponentLink1Description: https://datasheet.ciiva.com:443/pdfs/VipMasterIC/IC/YAGO/YAGO-S-A0008145938/YAGO-S-A0008145938-1.pdf?src-supplier=IHS+Markit; ComponentLink2URL: https://datasheet.ciiva.com/2458/pyu-r-int-thick-7-2458140.pdf?src-supplier=Digikey; ComponentLink2Description: https://datasheet.ciiva.com/2458/pyu-r-int-thick-7-2458140.pdf?src-supplier=Digikey; ComponentLink3URL: https://datasheet.ciiva.com/2458/pyu-r-int-thick-7-2458141.pdf?src-supplier=Digikey; ComponentLink3Description: https://datasheet.ciiva.com/2458/pyu-r-int-thick-7-2458141.pdf?src-supplier=Digikey; ComponentLink4URL: https://datasheet.ciiva.com/2458/pyu-r-int-thick-7-2458139.pdf?src-supplier=Digikey; ComponentLink4Description: https://datasheet.ciiva.com/2458/pyu-r-int-thick-7-2458139.pdf?src-supplier=Digikey; ComponentLink5URL: https://datasheet.ciiva.com/7941/444164-7941831.pdf?src-supplier=Element14; ComponentLink5Description: https://datasheet.ciiva.com/7941/444164-7941831.pdf?src-supplier=Element14; ComponentLink6URL: https://datasheet.ciiva.com/16744/rc0805-16744519.pdf?src-supplier=Future+Electronics; ComponentLink6Description: https://datasheet.ciiva.com/16744/rc0805-16744519.pdf?src-supplier=Future+Electronics; ComponentLink7URL: https://datasheet.ciiva.com/12666/rc0805-12666940.pdf?src-supplier=Mouser; ComponentLink7Description: https://datasheet.ciiva.com/12666/rc0805-12666940.pdf?src-supplier=Mouser; ComponentLink8URL: https://datasheet.ciiva.com/7941/444164-7941832.pdf?src-supplier=Element14; ComponentLink8Description: https://datasheet.ciiva.com/7941/444164-7941832.pdf?src-supplier=Element14; Supplier Part Number 1: 311-68.0CRCT-ND
footprint 0805
pins: 1, 2

## RC0805FR-0769K8L
designator R?, comment 69.8kR
Fixed Resistor, Metal Glaze/thick Film, 0.125W, 69800ohm, 150V, 1% +/-Tol, 100ppm/Cel, Surface Mount, 0805; Manufacturer: Yageo; Manufacturer Part Number: RC0805FR-0769K8L; Additional Feature: LASER TRIMMABLE; Rated Power Dissipation (P): 125mW; Rated Temperature: 70°C; Temperature Coefficient: 100ppm/°C; Package Height: 0.5mm; Package Length: 2mm; Package Width: 1.25mm; Supplier 1: Digikey; RoHS: Yes; Category: Chip SMD Resistors; Stock 1: 113767; Pricing 1: 1=0.1, 10=0.025, 50=0.016, 100=0.0133, 500=0.00912, 1000=0.00787 (USD); Mount: Surface Mount; Number of Pins: 2; Package Shape: Rectangular; Size Code: 0805; Terminal Finish: Nickel; Min Operating Temperature: -55°C; Max Operating Temperature: 155°C; Tolerance: 1%; JESD-609 Code: e3; Resistor Type: FIXED RESISTOR; Construction: Chip; Package Style: SMTMeter; Packaging: Tape and Reel; Resistance: 69.8kR; Technology: METAL GLAZE/THICK FILM; Termination: Wraparound; Working Voltage: 150V; Reach SVHC Compliant: Yes; RoHS Compliant: Yes; ComponentLink1URL: https://datasheet.ciiva.com:443/pdfs/VipMasterIC/IC/YAGO/YAGO-S-A0008145938/YAGO-S-A0008145938-1.pdf?src-supplier=IHS+Markit; ComponentLink1Description: https://datasheet.ciiva.com:443/pdfs/VipMasterIC/IC/YAGO/YAGO-S-A0008145938/YAGO-S-A0008145938-1.pdf?src-supplier=IHS+Markit; ComponentLink2URL: https://datasheet.ciiva.com/2458/pyu-r-int-thick-7-2458027.pdf?src-supplier=Digikey; ComponentLink2Description: https://datasheet.ciiva.com/2458/pyu-r-int-thick-7-2458027.pdf?src-supplier=Digikey; ComponentLink3URL: https://datasheet.ciiva.com/12656/rc0805-12656762.pdf?src-supplier=Mouser; ComponentLink3Description: https://datasheet.ciiva.com/12656/rc0805-12656762.pdf?src-supplier=Mouser; Supplier Part Number 1: 311-69.8KCRCT-ND
footprint 0805
pins: 1, 2

## RC0805FR-1324KL
designator R?, comment 24kR
Fixed Resistor, Metal Glaze/thick Film, 0.125W, 24000ohm, 150V, 1% +/-Tol, 100ppm/Cel, Surface Mount, 0805; Manufacturer: Yageo; Manufacturer Part Number: RC0805FR-1324KL; Additional Feature: LASER TRIMMABLE; Power: 125mW; Rated Temperature: 70°C; Temperature Coefficient: 100ppm/°C; Package Height: 0.5mm; Package Length: 2mm; Package Width: 1.25mm; Supplier: Digikey; Supplier Part Number: 13-RC0805FR-1324KLCT-ND; RoHS: Yes; Category: Chip SMD Resistors; Stock: 39739; Pricing: 1=0.1, 10=0.025, 50=0.016, 100=0.0133, 500=0.00912, 1000=0.00787, 5000=0.00577, 10000=0.00511 (USD); Mounting Technology: Surface Mount; Pins: 2; Package Shape: Rectangular; Case/Package: 0805; Terminal Finish: Nickel; Min Operating Temperature: -55°C; Max Operating Temperature: 155°C; Tolerance: 1%; JESD-609 Code: e3; Resistor Type: FIXED RESISTOR; Construction: Chip; Package Style: SMTMeter; Packaging: Tape and Reel; Value: 24kR; Technology: METAL GLAZE/THICK FILM; Termination: Wraparound; Working Voltage: 150V; Reach SVHC Compliant: Yes; RoHS Compliant: Yes; ComponentLink1URL: https://datasheet.ciiva.com:443/pdfs/VipMasterIC/IC/YAGO/YAGO-S-A0008145938/YAGO-S-A0008145938-1.pdf?src-supplier=IHS+Markit; ComponentLink1Description: https://datasheet.ciiva.com:443/pdfs/VipMasterIC/IC/YAGO/YAGO-S-A0008145938/YAGO-S-A0008145938-1.pdf?src-supplier=IHS+Markit; ComponentLink2URL: https://datasheet.ciiva.com/12575/rc0805-257173-12575893.pdf?src-supplier=Mouser; ComponentLink2Description: https://datasheet.ciiva.com/12575/rc0805-257173-12575893.pdf?src-supplier=Mouser
footprint 0805
pins: 1, 2

## RC0805FR-07160KL
designator R?, comment 160kR
Fixed Resistor, Metal Glaze/thick Film, 0.125W, 160000ohm, 150V, 1% +/-Tol, 100ppm/Cel, Surface Mount, 0805; Manufacturer: Yageo; Manufacturer Part Number: RC0805FR-07160KL; Additional Feature: LASER TRIMMABLE; Power: 125mW; Rated Temperature: 70°C; Temperature Coefficient: 100ppm/°C; Package Height: 0.5mm; Package Length: 2mm; Package Width: 1.25mm; Supplier: Digikey; Supplier Part Number: 311-160KCRCT-ND; RoHS: Yes; Category: Chip SMD Resistors; Stock: 270491; Pricing: 1=0.1, 10=0.025, 50=0.016, 100=0.0133, 500=0.00912, 1000=0.00787 (USD); Mounting Technology: Surface Mount; Pins: 2; Package Shape: Rectangular; Case/Package: 0805; Terminal Finish: Nickel; Min Operating Temperature: -55°C; Max Operating Temperature: 155°C; Tolerance: 1%; JESD-609 Code: e3; Resistor Type: FIXED RESISTOR; Construction: Chip; Package Style: SMTMeter; Packaging: Tape and Reel; Value: 160kR; Technology: METAL GLAZE/THICK FILM; Termination: Wraparound; Working Voltage: 150V; Reach SVHC Compliant: Yes; RoHS Compliant: Yes; ComponentLink1URL: https://datasheet.ciiva.com:443/pdfs/VipMasterIC/IC/YAGO/YAGO-S-A0008145938/YAGO-S-A0008145938-1.pdf?src-supplier=IHS+Markit; ComponentLink1Description: https://datasheet.ciiva.com:443/pdfs/VipMasterIC/IC/YAGO/YAGO-S-A0008145938/YAGO-S-A0008145938-1.pdf?src-supplier=IHS+Markit; ComponentLink2URL: https://datasheet.ciiva.com/11808/0900766b8106beab-11808868.pdf?src-supplier=Rs; ComponentLink2Description: https://datasheet.ciiva.com/11808/0900766b8106beab-11808868.pdf?src-supplier=Rs; ComponentLink3URL: https://datasheet.ciiva.com/2457/pyu-r-int-thick-7-2457007.pdf?src-supplier=Digikey; ComponentLink3Description: https://datasheet.ciiva.com/2457/pyu-r-int-thick-7-2457007.pdf?src-supplier=Digikey; ComponentLink4URL: https://datasheet.ciiva.com/2457/pyu-r-int-thick-7-2457005.pdf?src-supplier=Digikey; ComponentLink4Description: https://datasheet.ciiva.com/2457/pyu-r-int-thick-7-2457005.pdf?src-supplier=Digikey; ComponentLink5URL: https://datasheet.ciiva.com/17061/rc0805-17061772.pdf?src-supplier=Future+Electronics; ComponentLink5Description: https://datasheet.ciiva.com/17061/rc0805-17061772.pdf?src-supplier=Future+Electronics
footprint 0805
pins: 1, 2

## RC0805FR-07200KL
designator R?, comment 200kR
Fixed Resistor, Metal Glaze/thick Film, 0.125W, 200000ohm, 150V, 1% +/-Tol, 100ppm/Cel, Surface Mount, 0805; Manufacturer: Yageo; Manufacturer Part Number: RC0805FR-07200KL; Additional Feature: LASER TRIMMABLE; Rated Power Dissipation (P): 125mW; Rated Temperature: 70°C; Temperature Coefficient: 100ppm/°C; Package Height: 0.5mm; Package Length: 2mm; Package Width: 1.25mm; Supplier 1: Digikey; RoHS: Yes; Category: Chip SMD Resistors; Stock 1: 202590; Pricing 1: 1=0.1, 10=0.025, 50=0.016, 100=0.0133, 500=0.00912, 1000=0.00787 (USD); Mount: Surface Mount; Number of Pins: 2; Package Shape: Rectangular; Size Code: 0805; Terminal Finish: Nickel; Min Operating Temperature: -55°C; Max Operating Temperature: 155°C; Tolerance: 1%; JESD-609 Code: e3; Resistor Type: FIXED RESISTOR; Construction: Chip; Package Style: SMTMeter; Packaging: Tape and Reel; Resistance: 200kR; Technology: METAL GLAZE/THICK FILM; Termination: Wraparound; Working Voltage: 150V; Reach SVHC Compliant: Yes; RoHS Compliant: Yes; ComponentLink1URL: https://datasheet.ciiva.com:443/pdfs/VipMasterIC/IC/YAGO/YAGO-S-A0008145938/YAGO-S-A0008145938-1.pdf?src-supplier=IHS+Markit; ComponentLink1Description: https://datasheet.ciiva.com:443/pdfs/VipMasterIC/IC/YAGO/YAGO-S-A0008145938/YAGO-S-A0008145938-1.pdf?src-supplier=IHS+Markit; ComponentLink2URL: https://datasheet.ciiva.com/11808/0900766b8106beab-11808861.pdf?src-supplier=Rs; ComponentLink2Description: https://datasheet.ciiva.com/11808/0900766b8106beab-11808861.pdf?src-supplier=Rs; ComponentLink3URL: https://datasheet.ciiva.com/12668/rc0805-12668200.pdf?src-supplier=Mouser; ComponentLink3Description: https://datasheet.ciiva.com/12668/rc0805-12668200.pdf?src-supplier=Mouser; ComponentLink4URL: https://datasheet.ciiva.com/15189/getdatasheetpartid-71710-15189925.pdf?src-supplier=Verical; ComponentLink4Description: https://datasheet.ciiva.com/15189/getdatasheetpartid-71710-15189925.pdf?src-supplier=Verical; ComponentLink5URL: https://datasheet.ciiva.com/46395/444164-46395126.pdf?src-supplier=Element14; ComponentLink5Description: https://datasheet.ciiva.com/46395/444164-46395126.pdf?src-supplier=Element14; Supplier Part Number 1: 311-200KCRCT-ND
footprint 0805
pins: 1, 2

## RC0805FR-07360RL
designator R?, comment 360R
Fixed Resistor, Metal Glaze/thick Film, 0.125W, 360ohm, 150V, 1% +/-Tol, 100ppm/Cel, Surface Mount, 0805; Manufacturer: Yageo; Manufacturer Part Number: RC0805FR-07360RL; Additional Feature: LASER TRIMMABLE; Rated Power Dissipation (P): 125mW; Rated Temperature: 70°C; Temperature Coefficient: 100ppm/°C; Package Height: 0.5mm; Package Length: 2mm; Package Width: 1.25mm; Supplier 1: Digikey; RoHS: Yes; Category: Chip SMD Resistors; Stock 1: 62488; Pricing 1: 1=0.1, 10=0.026, 50=0.0162, 100=0.0136, 500=0.00938, 1000=0.0081 (USD); Mount: Surface Mount; Number of Pins: 2; Package Shape: Rectangular; Size Code: 0805; Terminal Finish: Nickel; Min Operating Temperature: -55°C; Max Operating Temperature: 155°C; Tolerance: 1%; JESD-609 Code: e3; Resistor Type: FIXED RESISTOR; Construction: Chip; Package Style: SMTMeter; Packaging: Tape and Reel; Resistance: 360R; Technology: METAL GLAZE/THICK FILM; Termination: Wraparound; Working Voltage: 150V; Reach SVHC Compliant: Yes; RoHS Compliant: Yes; ComponentLink1URL: https://datasheet.ciiva.com:443/pdfs/VipMasterIC/IC/YAGO/YAGO-S-A0008145938/YAGO-S-A0008145938-1.pdf?src-supplier=IHS+Markit; ComponentLink1Description: https://datasheet.ciiva.com:443/pdfs/VipMasterIC/IC/YAGO/YAGO-S-A0008145938/YAGO-S-A0008145938-1.pdf?src-supplier=IHS+Markit; ComponentLink2URL: https://datasheet.ciiva.com/11808/0900766b8106beab-11808261.pdf?src-supplier=Rs; ComponentLink2Description: https://datasheet.ciiva.com/11808/0900766b8106beab-11808261.pdf?src-supplier=Rs; ComponentLink3URL: https://datasheet.ciiva.com/17423/rc0805-17423149.pdf?src-supplier=Future+Electronics; ComponentLink3Description: https://datasheet.ciiva.com/17423/rc0805-17423149.pdf?src-supplier=Future+Electronics; ComponentLink4URL: https://datasheet.ciiva.com/12667/rc0805-12667401.pdf?src-supplier=Mouser; ComponentLink4Description: https://datasheet.ciiva.com/12667/rc0805-12667401.pdf?src-supplier=Mouser; Supplier Part Number 1: 311-360CRCT-ND
footprint 0805
pins: 1, 2

## RC0805FR-10200RL
designator R?, comment 200R
Fixed Resistor, Metal Glaze/thick Film, 0.125W, 200ohm, 150V, 1% +/-Tol, 100ppm/Cel, Surface Mount, 0805; Manufacturer: Yageo; Manufacturer Part Number: RC0805FR-10200RL; Additional Feature: LASER TRIMMABLE; Rated Power Dissipation (P): 125mW; Rated Temperature: 70°C; Temperature Coefficient: 100ppm/°C; Package Height: 0.5mm; Package Length: 2mm; Package Width: 1.25mm; Supplier 1: Digikey; RoHS: Yes; Category: Chip SMD Resistors; Stock 1: 62480; Pricing 1: 1=0.1, 10=0.025, 50=0.016, 100=0.0133, 500=0.00912, 1000=0.00787, 5000=0.00577 (USD); Mount: Surface Mount; Number of Pins: 2; Package Shape: Rectangular; Size Code: 0805; Terminal Finish: Nickel; Min Operating Temperature: -55°C; Max Operating Temperature: 155°C; Tolerance: 1%; JESD-609 Code: e3; Resistor Type: FIXED RESISTOR; Construction: Chip; Package Style: SMTMeter; Packaging: Tape and Reel; Resistance: 200R; Technology: METAL GLAZE/THICK FILM; Termination: Wraparound; Working Voltage: 150V; Reach SVHC Compliant: Yes; RoHS Compliant: Yes; ComponentLink1URL: https://datasheet.ciiva.com:443/pdfs/VipMasterIC/IC/YAGO/YAGO-S-A0008145938/YAGO-S-A0008145938-1.pdf?src-supplier=IHS+Markit; ComponentLink1Description: https://datasheet.ciiva.com:443/pdfs/VipMasterIC/IC/YAGO/YAGO-S-A0008145938/YAGO-S-A0008145938-1.pdf?src-supplier=IHS+Markit; ComponentLink2URL: http://www.yageo.com/documents/recent/PYu-RC_Group_51_RoHS_L_2.pdf?src-supplier=Avnet; ComponentLink2Description: http://www.yageo.com/documents/recent/PYu-RC_Group_51_RoHS_L_2.pdf?src-supplier=Avnet; Supplier Part Number 1: 13-RC0805FR-10200RLCT-ND
footprint 0805
pins: 1, 2